# Altium footprint library Connector_PinHeader_2.0mm.PcbLib: 2 footprints
Each footprint in its own frame and in the unit in brackets; x right, y up, seen from the top. Pads: shape width x height; smd on the part's side, far side on the other; paste and mask are expansions set on the pad; w line width, h text height; cw(c..) or ccw(c..) is an arc to the next point about the centre after c.
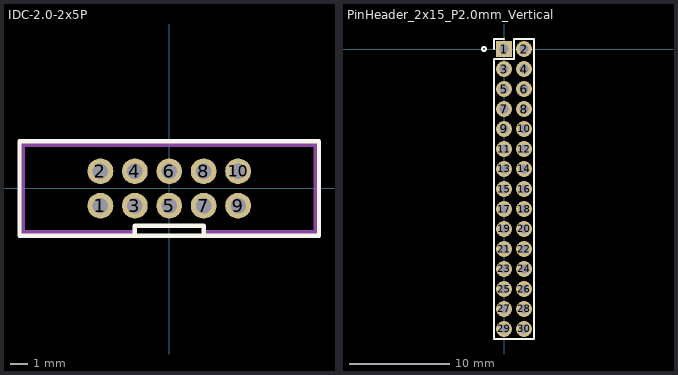
[diagram p0: the footprints below, top view; thin cyan lines are the x and y axes]

## IDC-2.0-2x5P [mm]
pads (10):
  round 1.5 hole 0.9 paste+0 mask+0.05: 1(-4,-1) 2(-4,1) 3(-2,-1) 4(-2,1) 5(0,-1) 6(0,1) 7(2,-1) 8(2,1) 9(4,-1) 10(4,1)
Top Overlay:
  lines w0.254: -8.7,-2.75 -8.7,2.75 8.7,2.75 8.7,-2.75 -8.7,-2.75 ; -2,-2.75 -2,-2.159 2,-2.159 2,-2.75 -2,-2.75
Mechanical 6:
  region: -2.032,-2.667 -8.636,-2.667 -8.636,2.667 8.636,2.667 8.636,-2.667 2.159,-2.667 2.159,-2.413 8.382,-2.413 8.382,2.413 -8.382,2.413 -8.382,-2.413 -2.032,-2.413
Mechanical 15:
  region: -4.25,-0.75 -3.75,-0.75 -3.75,-1.25 -4.25,-1.25
  region: -4.25,1.25 -3.75,1.25 -3.75,0.75 -4.25,0.75
  region: -2.25,-0.75 -1.75,-0.75 -1.75,-1.25 -2.25,-1.25
  region: -2.25,1.25 -1.75,1.25 -1.75,0.75 -2.25,0.75
  region: -0.25,-0.75 0.25,-0.75 0.25,-1.25 -0.25,-1.25
  region: -0.25,1.25 0.25,1.25 0.25,0.75 -0.25,0.75
  region: 1.75,-0.75 2.25,-0.75 2.25,-1.25 1.75,-1.25
  region: 1.75,1.25 2.25,1.25 2.25,0.75 1.75,0.75
  region: 3.75,-0.75 4.25,-0.75 4.25,-1.25 3.75,-1.25
  region: 3.75,1.25 4.25,1.25 4.25,0.75 3.75,0.75
  region: -8.61,-2.75 -8.61,-2.725 -8.645,-2.69 -8.695,-2.69 -8.73,-2.725 -8.73,-2.75 -8.73,-2.775 -8.695,-2.81 -8.645,-2.81 -8.61,-2.775 -8.61,-2.75
  lines w0.051: -8.67,-2.75 8.67,-2.75 8.67,2.75 -8.67,2.75 -8.67,-2.75

## PinHeader_2x15_P2.0mm_Vertical [mm]
pads (30):
  rect 1.6x1.6 hole 0.9: 1(0,0)
  round 1.6 hole 0.9: 2(2,0) 3(0,-2) 4(2,-2) 5(0,-4) 6(2,-4) 7(0,-6) 8(2,-6) 9(0,-8) 10(2,-8) 11(0,-10) 12(2,-10) 13(0,-12) 14(2,-12) 15(0,-14) 16(2,-14) 17(0,-16) 18(2,-16) 19(0,-18) 20(2,-18) 21(0,-20) 22(2,-20) 23(0,-22) 24(2,-22) 25(0,-24) 26(2,-24) 27(0,-26) 28(2,-26) 29(0,-28) 30(2,-28)
Top Overlay:
  circle w0.2: c-2,0 r0.2
  lines w0.152: -1,0 -1,1 0,1 ; -1,-29 3,-29 3,1 1,1 1,-1 -1,-1 -1,-29
3D body "PinHeader_2x15_P2.00mm_Vertical.step": height 6, standoff -2.8, extent -1,-29 3,1